# Altium footprint library EECS430PhasedArray.PcbLib: 55 footprints (part 2 of 4)
Each footprint in its own frame and in the unit in brackets; x right, y up, seen from the top. Pads: shape width x height; smd on the part's side, far side on the other; paste and mask are expansions set on the pad; w line width, h text height; cw(c..) or ccw(c..) is an arc to the next point about the centre after c.
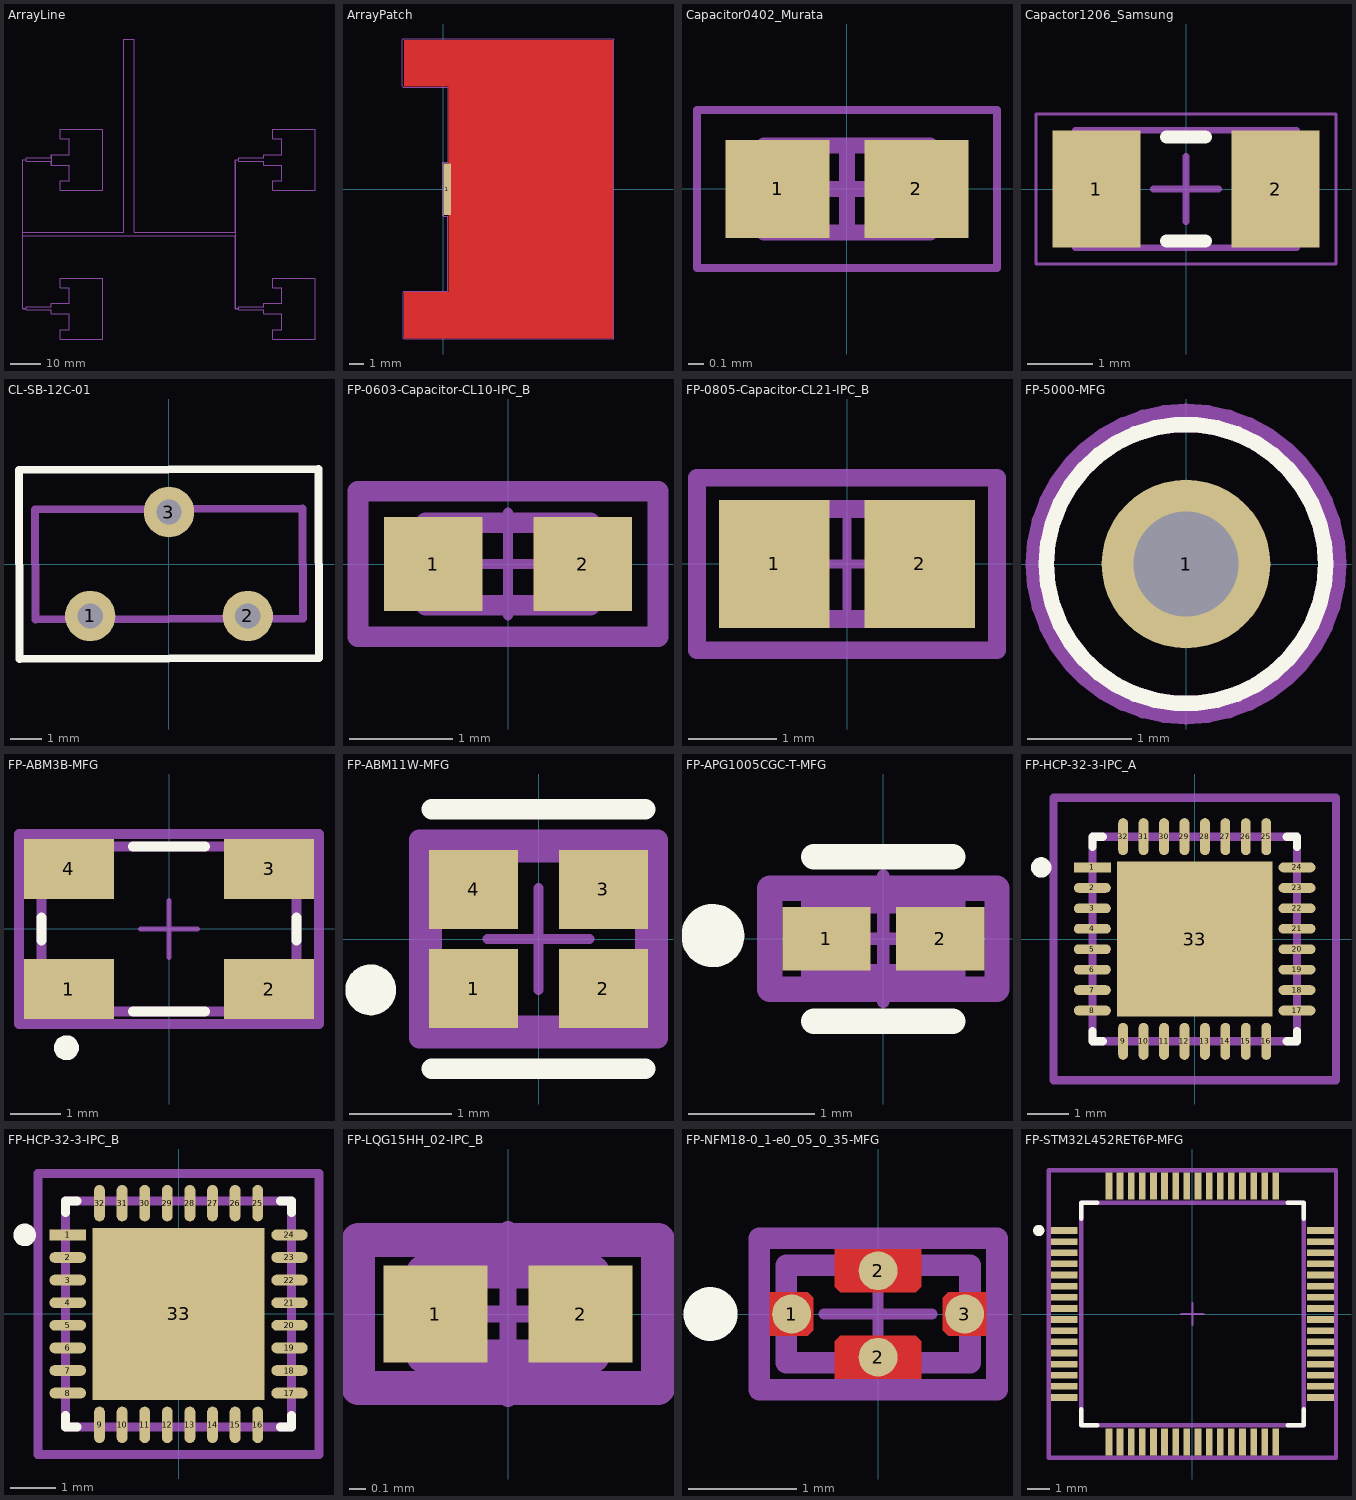
[diagram p1: the footprints below, top view; thin cyan lines are the x and y axes]

## ArrayLine [mm]
Mechanical 2:
  region: -1260.655,-1212.722 -1260.655,-1209.265 -1260.347,-1209.265 -1260.347,-1212.722
  lines w0.013: -1269.994,-1260.046 -1268.825,-1260.046 -1268.825,-1260.433 -1260.655,-1260.433 -1260.655,-1261.722 -1254.641,-1261.722 -1254.641,-1266.908 -1257.655,-1266.908 -1257.655,-1269.994 -1243.655,-1269.994 -1243.655,-1249.994 -1257.655,-1249.994 -1257.655,-1253.079 -1254.641,-1253.079 -1254.641,-1258.265 -1260.655,-1258.265 -1260.655,-1259.344 -1268.825,-1259.344 -1268.825,-1259.941 -1269.889,-1259.941 -1269.889,-1235.933 -1199.994,-1235.933 -1199.994,-1260.046 -1198.825,-1260.046 -1198.825,-1260.433 -1190.655,-1260.433 -1190.655,-1261.722 -1184.641,-1261.722 -1184.641,-1266.908 -1187.655,-1266.908 -1187.655,-1269.994 -1173.655,-1269.994 -1173.655,-1249.994 -1187.655,-1249.994 -1187.655,-1253.079 -1184.641,-1253.079 -1184.641,-1258.265 -1190.655,-1258.265 -1190.655,-1259.344 -1198.825,-1259.344 -1198.825,-1259.941 -1199.889,-1259.941 -1199.889,-1211.046 -1198.825,-1211.046 -1198.825,-1211.433 -1190.655,-1211.433 -1190.655,-1212.722 -1184.641,-1212.722 -1184.641,-1217.908 -1187.655,-1217.908 -1187.655,-1220.994 -1173.655,-1220.994 -1173.655,-1200.994 -1187.655,-1200.994 -1187.655,-1204.079 -1184.641,-1204.079 -1184.641,-1209.265 -1190.655,-1209.265 -1190.655,-1210.344 -1198.825,-1210.344 -1198.825,-1210.941 -1199.994,-1210.941 -1199.994,-1234.844 -1233.213,-1234.844 -1233.213,-1171.24 -1236.67,-1171.24 -1236.67,-1234.844 -1269.889,-1234.844 -1269.889,-1211.046 -1268.825,-1211.046 -1268.825,-1211.433 -1260.655,-1211.433 -1260.655,-1212.722 -1254.641,-1212.722 -1254.641,-1217.908 -1257.655,-1217.908 -1257.655,-1220.994 -1243.655,-1220.994 -1243.655,-1200.994 -1257.655,-1200.994 -1257.655,-1204.079 -1254.641,-1204.079 -1254.641,-1209.265 -1260.655,-1209.265 -1260.655,-1210.344 -1268.825,-1210.344 -1268.825,-1210.941 -1269.994,-1210.941 -1269.994,-1260.046

## ArrayPatch [mm]
pads (1):
  rect 0.506x3.457 smd paste+0 mask-10: 1(0.253,0)
Top Layer:
  region: 11.354,10 11.354,-10 -2.646,-10 -2.646,-6.915 0.368,-6.915 0.368,-1.729 0.368,1.729 0.368,6.915 -2.646,6.915 -2.646,10
Top Courtyard:
  lines w0.01: -2.765,6.928 -2.682,6.845 0.277,6.845 0.327,6.795 0.327,1.824 0.299,1.796 -0.016,1.796 -0.052,1.76 -0.052,-1.743 0.003,-1.798 0.273,-1.798 0.297,-1.822 0.297,-6.846 0.285,-6.858 -2.66,-6.858 -2.708,-6.906 -2.708,-10.001 -2.665,-10.044 11.413,-10.044 11.419,-10.038 11.419,10.029 11.374,10.074 -2.717,10.074 -2.765,10.026 -2.765,6.928

## Capacitor0402_Murata [mm] "0402 Murata Ceramic Capacitor"
height 0.55
pads (2):
  rect 0.66x0.62 smd: 1(-0.44,0) 2(0.44,0)
Top Assembly:
  lines w0.1: -0.525,-0.275 0.525,-0.275 0.525,0.275 -0.525,0.275 -0.525,-0.275
Top Courtyard:
  lines w0.05: -0.95,-0.5 0.95,-0.5 0.95,0.5 -0.95,0.5 -0.95,-0.5
  lines w0.1: -0.275,0 0.275,0 ; 0,-0.275 0,0.275
3D body "Capacitor0402_Murata.step": height 0.55, standoff 0, extent -0.525,-0.275 0.525,0.275

## Capactor1206_Samsung [mm] "1206 Ceramic Capacitor Samsung"
height 1.8
pads (2):
  rect 1.35x1.8 smd: 1(-1.375,0) 2(1.375,0)
Top Overlay:
  lines w0.2: -0.3,-0.8 0.3,-0.8 ; -0.3,0.8 0.3,0.8
Top Assembly:
  lines w0.1: -1.7,-0.9 -1.7,0.9 1.7,0.9 1.7,-0.9 -1.7,-0.9
Top Courtyard:
  lines w0.05: -2.3,-1.15 -2.3,1.15 2.3,1.15 2.3,-1.15 -2.3,-1.15
  lines w0.1: -0.5,0 0.5,0 ; 0,-0.5 0,0.5
3D body "Capactor1206_Samsung.step": height 1.8, standoff 0, extent -1.7,-0.9 1.7,0.9

## CL-SB-12C-01 [mm] "Slide Switch SPDT Through Hole"
pads (3):
  round 1.6 hole 0.8: 1(-2.5,-1.65) 2(2.5,-1.65) 3(0,1.65)
Top Overlay:
  lines w0.254: -4.76,2.983 4.74,3.017 4.76,-2.983 -4.739,-3.017 -4.76,2.983
Top Assembly:
  lines w0.254: -4.256,1.735 4.244,1.765 4.256,-1.735 -4.244,-1.765 -4.256,1.735

## FP-0603-Capacitor-CL10-IPC_B [mm]
pads (2):
  rect 0.958x0.912 smd: 1(-0.727,0) 2(0.727,0)
Top Assembly:
  lines w0.2: -1.456,-0.706 -1.456,0.706 1.456,0.706 1.456,-0.706 -1.456,-0.706
Top 3D Body:
  lines w0.2: -0.8,-0.4 -0.8,0.4 0.8,0.4 0.8,-0.4 -0.8,-0.4
Top Courtyard:
  lines w0.2: -1.456,-0.706 -1.456,0.706 1.456,0.706 1.456,-0.706 -1.456,-0.706
Top Component Center:
  lines w0.1: -0.5,0 0.5,0 ; 0,-0.5 0,0.5
3D body "Cap_Samsung_CL10B105KA8NNNC_eec.STEP": height 0.25, standoff 0, extent -1.456,-0.706 1.456,0.706

## FP-0805-Capacitor-CL21-IPC_B [mm]
pads (2):
  rect 1.255x1.456 smd: 1(-0.826,0) 2(0.826,0)
Top Assembly:
  lines w0.2: -1.703,-0.978 1.703,-0.978 1.703,0.978 -1.703,0.978 -1.703,-0.978
Top 3D Body:
  lines w0.2: -1,-0.625 1,-0.625 1,0.625 -1,0.625 -1,-0.625
Top Courtyard:
  lines w0.2: -1.703,-0.978 1.703,-0.978 1.703,0.978 -1.703,0.978 -1.703,-0.978
Top Component Center:
  lines w0.1: -0.5,0 0.5,0 ; 0,-0.5 0,0.5
3D body "Cap_Samsung_CL21B273KBANNNC_eec.STEP": height 0.25, standoff 0, extent -1.703,-0.978 1.703,0.978

## FP-5000-MFG [mil]
pads (1):
  round 64 hole 40: 1(0,0)
Top Overlay:
  circle w5.91: c0,0 r52.95
Top 3D Body:
  circle w5.91: c0,0 r52.95
Top Courtyard:
  lines w7.87: -56.89,0 ccw(c0,0) 56.89,0 ccw(c0,0) -56.89,0
Top Component Center:
  lines w3.94: -19.68,0 19.68,0 ; 0,-19.68 0,19.68
3D body "Conn_Keystone_5000_eec.STEP": height 180.42, standoff -119.58, extent -50,-49.64 50,49.64

## FP-ABM3B-MFG [mm] "Crystal 4-SMD, No Lead"
pads (4):
  rect 1.8x1.2 smd: 1(-2,-1.2) 2(2,-1.2) 3(2,1.2) 4(-2,1.2)
Top Overlay:
  circle w0.25: c-2.05,-2.375 r0.125
  lines w0.2: -2.55,-0.225 -2.55,0.225 ; -0.725,-1.65 0.725,-1.65 ; -0.725,1.65 0.725,1.65 ; 2.55,-0.225 2.55,0.225
Top Assembly:
  lines w0.2: -3,-1.9 -3,1.9 3,1.9 3,-1.9 -3,-1.9
Top 3D Body:
  lines w0.2: -2.55,-1.65 -2.55,1.65 2.55,1.65 2.55,-1.65 -2.55,-1.65
Top Courtyard:
  lines w0.2: -3,-1.9 -3,1.9 3,1.9 3,-1.9 -3,-1.9
Top Component Center:
  lines w0.1: -0.57,0 0.57,0 ; 0,-0.57 0,0.57
3D body "Crys_Abracon_ABM3B-12_000MHZ-10-B-1-U-T_eec.STEP": height 0.25, standoff 0, extent -3,-1.9 3,1.9

## FP-ABM11W-MFG [mm]
pads (4):
  rect 0.875x0.775 smd: 1(-0.637,-0.487) 2(0.637,-0.487) 3(0.637,0.487) 4(-0.637,0.487)
Top Overlay:
  circle w0.25: c-1.65,-0.5 r0.125
  lines w0.2: -1.05,-1.275 1.05,-1.275 ; -1.05,1.275 1.05,1.275
Top Assembly:
  lines w0.2: -1.175,-0.975 1.175,-0.975 1.175,0.975 -1.175,0.975 -1.175,-0.975
Top 3D Body:
  lines w0.2: -1.05,-0.85 1.05,-0.85 1.05,0.85 -1.05,0.85 -1.05,-0.85
Top Courtyard:
  lines w0.2: -1.175,-0.975 1.175,-0.975 1.175,0.975 -1.175,0.975 -1.175,-0.975
Top Component Center:
  lines w0.1: -0.5,0 0.5,0 ; 0,-0.5 0,0.5
3D body "Crys_Abracon_ABM11W-16_0132MHZ-4-J1Z-T3_eec.STEP": height 0.25, standoff 0, extent -1.175,-0.975 1.175,0.975

## FP-APG1005CGC-T-MFG [mm]
pads (2):
  rect 0.7x0.5 smd: 1(-0.45,0) 2(0.45,0)
Top Overlay:
  circle w0.25: c-1.35,0.025 r0.125
  lines w0.2: -0.55,-0.654 0.55,-0.654 ; -0.55,0.65 0.55,0.65
Top Assembly:
  lines w0.2: -0.9,-0.4 0.9,-0.4 0.9,0.4 -0.9,0.4 -0.9,-0.4
Top 3D Body:
  lines w0.2: -0.55,-0.3 0.55,-0.3 0.55,0.3 -0.55,0.3 -0.55,-0.3
Top Courtyard:
  lines w0.2: -0.9,-0.4 0.9,-0.4 0.9,0.4 -0.9,0.4 -0.9,-0.4
Top Component Center:
  lines w0.1: -0.5,0 0.5,0 ; 0,-0.5 0,0.5
3D body "Diode_Kingbright_APG1005CGC-T_eec.STEP": height 0.25, standoff 0, extent -0.9,-0.4 0.9,0.4

## FP-HCP-32-3-IPC_A [mm]
pads (33):
  rect 0.906x0.239 smd paste+0 mask+0: 1(-2.503,1.75)
  rrect100% 0.906x0.239 smd paste+0 mask+0: 2(-2.503,1.25) 3(-2.503,0.75) 4(-2.503,0.25) 5(-2.503,-0.25) 6(-2.503,-0.75) 7(-2.503,-1.25) 8(-2.503,-1.75) 17(2.503,-1.75) 18(2.503,-1.25) 19(2.503,-0.75) 20(2.503,-0.25) 21(2.503,0.25) 22(2.503,0.75) 23(2.503,1.25) 24(2.503,1.75)
  rrect100% 0.239x0.906 smd paste+0 mask+0: 9(-1.75,-2.503) 10(-1.25,-2.503) 11(-0.75,-2.503) 12(-0.25,-2.503) 13(0.25,-2.503) 14(0.75,-2.503) 15(1.25,-2.503) 16(1.75,-2.503) 25(1.75,2.503) 26(1.25,2.503) 27(0.75,2.503) 28(0.25,2.503) 29(-0.25,2.503) 30(-0.75,2.503) 31(-1.25,2.503) 32(-1.75,2.503)
  rect 3.8x3.8 smd paste-1000 mask+0: 33(0,0)
Top Overlay:
  circle w0.25: c-3.756,1.75 r0.125
  lines w0.2: -2.5,-2.25 -2.5,-2.5 -2.25,-2.5 ; -2.5,2.25 -2.5,2.5 -2.25,2.5 ; 2.25,-2.5 2.5,-2.5 2.5,-2.25 ; 2.25,2.5 2.5,2.5 2.5,2.25
Top Paste:
  rectangle: -1.202,-1.202 1.202,1.202
Top Assembly:
  lines w0.2: -3.456,-3.456 -3.456,3.456 3.456,3.456 3.456,-3.456 -3.456,-3.456
  text ".Designator" at 0,0.188 h1
Top 3D Body:
  lines w0.2: -2.5,-2.5 -2.5,2.5 2.5,2.5 2.5,-2.5 -2.5,-2.5
Top Courtyard:
  lines w0.2: -3.456,-3.456 -3.456,3.456 3.456,3.456 3.456,-3.456 -3.456,-3.456
Top Component Center:
  lines w0.1: -0.5,0 0.5,0 ; 0,-0.5 0,0.5
3D body "IC_Analog_Devices_HMC1133LP5E_eec.STEP": height 0.25, standoff 0, extent -3.456,-3.456 3.456,3.456

## FP-HCP-32-3-IPC_B [mm]
pads (33):
  rect 0.806x0.239 smd paste+0 mask+0: 1(-2.453,1.75)
  rrect100% 0.806x0.239 smd paste+0 mask+0: 2(-2.453,1.25) 3(-2.453,0.75) 4(-2.453,0.25) 5(-2.453,-0.25) 6(-2.453,-0.75) 7(-2.453,-1.25) 8(-2.453,-1.75) 17(2.453,-1.75) 18(2.453,-1.25) 19(2.453,-0.75) 20(2.453,-0.25) 21(2.453,0.25) 22(2.453,0.75) 23(2.453,1.25) 24(2.453,1.75)
  rrect100% 0.239x0.806 smd paste+0 mask+0: 9(-1.75,-2.453) 10(-1.25,-2.453) 11(-0.75,-2.453) 12(-0.25,-2.453) 13(0.25,-2.453) 14(0.75,-2.453) 15(1.25,-2.453) 16(1.75,-2.453) 25(1.75,2.453) 26(1.25,2.453) 27(0.75,2.453) 28(0.25,2.453) 29(-0.25,2.453) 30(-0.75,2.453) 31(-1.25,2.453) 32(-1.75,2.453)
  rect 3.8x3.8 smd paste-1000 mask+0: 33(0,0)
Top Overlay:
  circle w0.25: c-3.406,1.75 r0.125
  lines w0.2: -2.5,-2.25 -2.5,-2.5 -2.25,-2.5 ; -2.5,2.25 -2.5,2.5 -2.25,2.5 ; 2.25,-2.5 2.5,-2.5 2.5,-2.25 ; 2.25,2.5 2.5,2.5 2.5,2.25
Top Paste:
  rectangle: -1.202,-1.202 1.202,1.202
Top Assembly:
  lines w0.2: -3.106,-3.106 -3.106,3.106 3.106,3.106 3.106,-3.106 -3.106,-3.106
  text ".Designator" at 0,0.188 h1
Top 3D Body:
  lines w0.2: -2.5,-2.5 -2.5,2.5 2.5,2.5 2.5,-2.5 -2.5,-2.5
Top Courtyard:
  lines w0.2: -3.106,-3.106 -3.106,3.106 3.106,3.106 3.106,-3.106 -3.106,-3.106
Top Component Center:
  lines w0.1: -0.5,0 0.5,0 ; 0,-0.5 0,0.5
3D body "IC_Analog_Devices_HMC1133LP5E_eec.STEP": height 0.25, standoff 0, extent -3.106,-3.106 3.106,3.106

## FP-LQG15HH_02-IPC_B [mm]
pads (2):
  rect 0.615x0.572 smd paste+0 mask+0: 1(-0.429,0) 2(0.429,0)
Top Assembly:
  lines w0.2: -0.886,-0.436 -0.886,0.436 0.886,0.436 0.886,-0.436 -0.886,-0.436
Top 3D Body:
  lines w0.2: -0.5,-0.25 -0.5,0.25 0.5,0.25 0.5,-0.25 -0.5,-0.25
Top Courtyard:
  lines w0.2: -0.886,-0.436 -0.886,0.436 0.886,0.436 0.886,-0.436 -0.886,-0.436
Top Component Center:
  lines w0.1: -0.5,0 0.5,0 ; 0,-0.5 0,0.5
3D body "Ind_Murata_LQG15HN39NJ02D_eec.STEP": height 0.25, standoff 0, extent -0.886,-0.436 0.886,0.436

## FP-NFM18-0_1-e0_05_0_35-MFG [mm]
pads (4):
  round 0.36 smd mask+0: 1(-0.8,0) 2(0,-0.4) 2(0,0.4) 3(0.8,0)
Top Layer:
  region: -1,-0.2 -1,0.2 -0.65,0.2 -0.6,0.15 -0.6,-0.15 -0.65,-0.2
  region: 1,-0.2 1,0.2 0.65,0.2 0.6,0.15 0.6,-0.15 0.65,-0.2
  region: -0.4,0.6 0.4,0.6 0.4,0.25 0.35,0.2 -0.35,0.2 -0.4,0.25
  region: -0.4,-0.6 0.4,-0.6 0.4,-0.25 0.35,-0.2 -0.35,-0.2 -0.4,-0.25
Top Overlay:
  circle w0.25: c-1.55,0 r0.125
Top Assembly:
  lines w0.2: -1.1,-0.7 1.1,-0.7 1.1,0.7 -1.1,0.7 -1.1,-0.7
Top 3D Body:
  lines w0.2: -0.85,-0.45 0.85,-0.45 0.85,0.45 -0.85,0.45 -0.85,-0.45
Top Courtyard:
  lines w0.2: -1.1,-0.7 1.1,-0.7 1.1,0.7 -1.1,0.7 -1.1,-0.7
Top Component Center:
  lines w0.1: -0.5,0 0.5,0 ; 0,-0.5 0,0.5
3D body "Cap_Murata_NFM18PS105D0J3D_eec.STEP": height 0.25, standoff 0, extent -1.1,-0.7 1.1,0.7

## FP-STM32L452RET6P-MFG [mm]
pads (64):
  rect 1.2x0.3 smd: 1(-5.75,3.75) 2(-5.75,3.25) 3(-5.75,2.75) 4(-5.75,2.25) 5(-5.75,1.75) 6(-5.75,1.25) 7(-5.75,0.75) 8(-5.75,0.25) 9(-5.75,-0.25) 10(-5.75,-0.75) 11(-5.75,-1.25) 12(-5.75,-1.75) 13(-5.75,-2.25) 14(-5.75,-2.75) 15(-5.75,-3.25) 16(-5.75,-3.75) 33(5.75,-3.75) 34(5.75,-3.25) 35(5.75,-2.75) 36(5.75,-2.25) 37(5.75,-1.75) 38(5.75,-1.25) 39(5.75,-0.75) 40(5.75,-0.25) 41(5.75,0.25) 42(5.75,0.75) 43(5.75,1.25) 44(5.75,1.75) 45(5.75,2.25) 46(5.75,2.75) 47(5.75,3.25) 48(5.75,3.75)
  rect 0.3x1.2 smd: 17(-3.75,-5.75) 18(-3.25,-5.75) 19(-2.75,-5.75) 20(-2.25,-5.75) 21(-1.75,-5.75) 22(-1.25,-5.75) 23(-0.75,-5.75) 24(-0.25,-5.75) 25(0.25,-5.75) 26(0.75,-5.75) 27(1.25,-5.75) 28(1.75,-5.75) 29(2.25,-5.75) 30(2.75,-5.75) 31(3.25,-5.75) 32(3.75,-5.75) 49(3.75,5.75) 50(3.25,5.75) 51(2.75,5.75) 52(2.25,5.75) 53(1.75,5.75) 54(1.25,5.75) 55(0.75,5.75) 56(0.25,5.75) 57(-0.25,5.75) 58(-0.75,5.75) 59(-1.25,5.75) 60(-1.75,5.75) 61(-2.25,5.75) 62(-2.75,5.75) 63(-3.25,5.75) 64(-3.75,5.75)
Top Overlay:
  circle w0.25: c-6.9,3.75 r0.125
  lines w0.2: -5,-4.275 -5,-5 -4.275,-5 ; -5,4.275 -5,5 -4.275,5 ; 4.275,-5 5,-5 5,-4.275 ; 4.275,5 5,5 5,4.275
Top Assembly:
  lines w0.2: -6.45,-6.45 6.45,-6.45 6.45,6.45 -6.45,6.45 -6.45,-6.45
Top 3D Body:
  lines w0.2: -5,-5 5,-5 5,5 -5,5 -5,-5
Top Courtyard:
  lines w0.2: -6.45,-6.45 6.45,-6.45 6.45,6.45 -6.45,6.45 -6.45,-6.45
Top Component Center:
  lines w0.1: -0.5,0 0.5,0 ; 0,-0.5 0,0.5
3D body "IC_STMicroelectronics_STM32L452RET6P_eec.STEP": height 0.25, standoff 0, extent -6.45,-6.45 6.45,6.45